# Altium integrated library GBJ1508-F.IntLib: 1 symbol
Pins are listed as number, name and electrical type; pins without a type are passive.

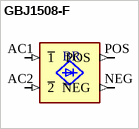
[diagram p0: symbol GBJ1508-F]

## GBJ1508-F
designator BR
Bridge Rectifier Single Phase Standard 800V Through Hole GBJ; MF: Diodes Inc.; MP: GBJ1508-F; Value: *; SnapEDA_Link: https://www.snapeda.com/parts/GBJ1508-F/Diodes%20Inc./view-part/130069/?ref=snap; Mouser-Purchase-URL: https://snapeda.com/shop?store=Mouser&id=130069; Availability: Unavailable; Price: None; Package: SIP-4 Diodes Inc.
footprint DIO_GBJ1508-F
pins: AC1 ~{1} (in), AC2 ~{2} (in), NEG (out), POS (out)